# EAGLE library part STM32F746NG (library ICs)
32 Bit Microcontroller, ART Accelerator, ARM Cortex-M7, 216 MHz, 1 MB, 320 KB, 216 Pins, TFBGA
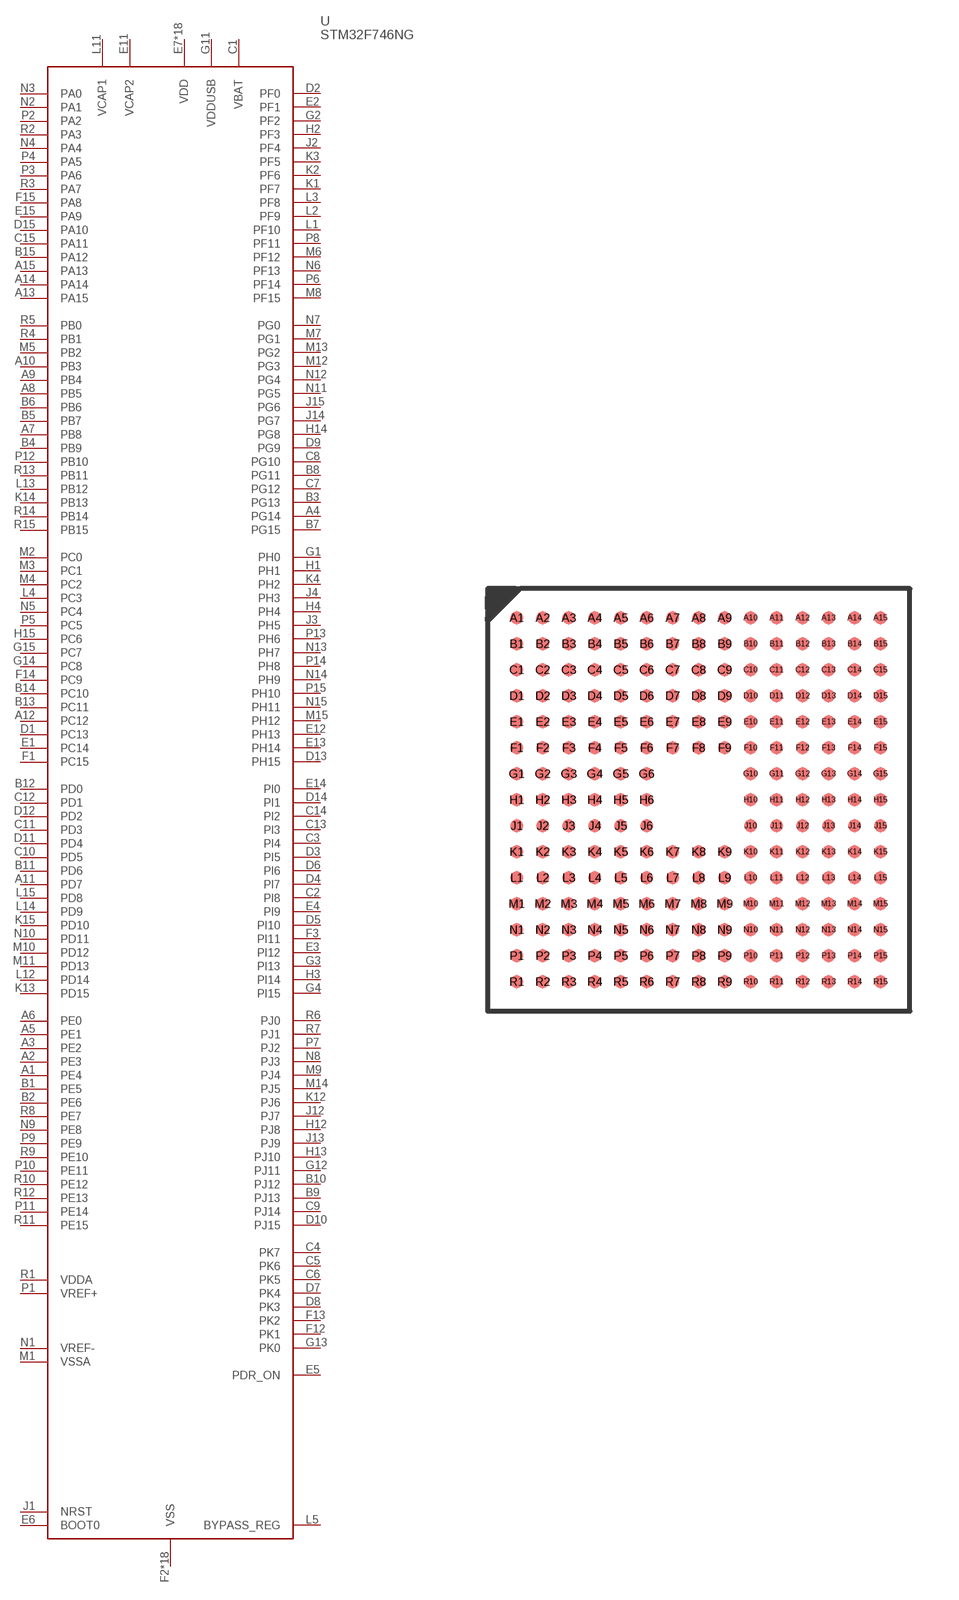
[diagram p126: symbol with the pads of TFBGA216; footprint TFBGA216]

Designator prefix U

## STM32F746NG (FARNELL: 2484970; PRICE_PER: 12.77; VALUE: STM32F746NG)  [TFBGA216]
A1  PE4
A2  PE3
A3  PE2
A4  PG14
A5  PE1
A6  PE0
A7  PB8
A8  PB5
A9  PB4
A10  PB3
A11  PD7
A12  PC12
A13  PA15
A14  PA14
A15  PA13
B1  PE5
B2  PE6
B3  PG13
B4  PB9
B5  PB7
B6  PB6
B7  PG15
B8  PG11
B9  PJ13
B10  PJ12
B11  PD6
B12  PD0
B13  PC11
B14  PC10
B15  PA12
C1  VBAT
C2  PI8
C3  PI4
C4  PK7
C5  PK6
C6  PK5
C7  PG12
C8  PG10
C9  PJ14
C10  PD5
C11  PD3
C12  PD1
C13  PI3
C14  PI2
C15  PA11
D1  PC13
D2  PF0
D3  PI5
D4  PI7
D5  PI10
D6  PI6
D7  PK4
D8  PK3
D9  PG9
D10  PJ15
D11  PD4
D12  PD2
D13  PH15
D14  PI1
D15  PA10
E1  PC14
E2  PF1
E3  PI12
E4  PI9
E5  PDR_ON
E6  BOOT0
E7  VDD
E8  VDD
E9  VDD
E10  VDD
E11  VCAP2
E12  PH13
E13  PH14
E14  PI0
E15  PA9
F1  PC15
F2  VSS
F3  PI11
F4  VDD
F5  VDD
F6  VSS
F7  VSS
F8  VSS
F9  VSS
F10  VSS
F11  VDD
F12  PK1
F13  PK2
F14  PC9
F15  PA8
G1  PH0
G2  PF2
G3  PI13
G4  PI15
G5  VDD
G6  VSS
G10  VSS
G11  VDDUSB
G12  PJ11
G13  PK0
G14  PC8
G15  PC7
H1  PH1
H2  PF3
H3  PI14
H4  PH4
H5  VDD
H6  VSS
H10  VSS
H11  VDD
H12  PJ8
H13  PJ10
H14  PG8
H15  PC6
J1  NRST
J2  PF4
J3  PH5
J4  PH3
J5  VDD
J6  VSS
J10  VSS
J11  VDD
J12  PJ7
J13  PJ9
J14  PG7
J15  PG6
K1  PF7
K2  PF6
K3  PF5
K4  PH2
K5  VDD
K6  VSS
K7  VSS
K8  VSS
K9  VSS
K10  VSS
K11  VDD
K12  PJ6
K13  PD15
K14  PB13
K15  PD10
L1  PF10
L2  PF9
L3  PF8
L4  PC3
L5  BYPASS_REG
L6  VSS
L7  VDD
L8  VDD
L9  VDD
L10  VDD
L11  VCAP1
L12  PD14
L13  PB12
L14  PD9
L15  PD8
M1  VSSA
M2  PC0
M3  PC1
M4  PC2
M5  PB2
M6  PF12
M7  PG1
M8  PF15
M9  PJ4
M10  PD12
M11  PD13
M12  PG3
M13  PG2
M14  PJ5
M15  PH12
N1  VREF-
N2  PA1
N3  PA0
N4  PA4
N5  PC4
N6  PF13
N7  PG0
N8  PJ3
N9  PE8
N10  PD11
N11  PG5
N12  PG4
N13  PH7
N14  PH9
N15  PH11
P1  VREF+
P2  PA2
P3  PA6
P4  PA5
P5  PC5
P6  PF14
P7  PJ2
P8  PF11
P9  PE9
P10  PE11
P11  PE14
P12  PB10
P13  PH6
P14  PH8
P15  PH10
R1  VDDA
R2  PA3
R3  PA7
R4  PB1
R5  PB0
R6  PJ0
R7  PJ1
R8  PE7
R9  PE10
R10  PE12
R11  PE15
R12  PE13
R13  PB11
R14  PB14
R15  PB15

## Footprint TFBGA216 (pad centres in mm)
smd 0.4 x 0.4: A1 -5.6,5.6; A2 -4.8,5.6; A3 -4,5.6; A4 -3.2,5.6; A5 -2.4,5.6; A6 -1.6,5.6; A7 -0.8,5.6; A8 0,5.6; A9 0.8,5.6; A10 1.6,5.6; A11 2.4,5.6; A12 3.2,5.6; A13 4,5.6; A14 4.8,5.6; A15 5.6,5.6; B1 -5.6,4.8; B2 -4.8,4.8; B3 -4,4.8; B4 -3.2,4.8; B5 -2.4,4.8; B6 -1.6,4.8; B7 -0.8,4.8; B8 0,4.8; B9 0.8,4.8; B10 1.6,4.8; B11 2.4,4.8; B12 3.2,4.8; B13 4,4.8; B14 4.8,4.8; B15 5.6,4.8; C1 -5.6,4; C2 -4.8,4; C3 -4,4; C4 -3.2,4; C5 -2.4,4; C6 -1.6,4; C7 -0.8,4; C8 0,4; C9 0.8,4; C10 1.6,4; C11 2.4,4; C12 3.2,4; C13 4,4; C14 4.8,4; C15 5.6,4; D1 -5.6,3.2; D2 -4.8,3.2; D3 -4,3.2; D4 -3.2,3.2; D5 -2.4,3.2; D6 -1.6,3.2; D7 -0.8,3.2; D8 0,3.2; D9 0.8,3.2; D10 1.6,3.2; D11 2.4,3.2; D12 3.2,3.2; D13 4,3.2; D14 4.8,3.2; D15 5.6,3.2; E1 -5.6,2.4; E2 -4.8,2.4; E3 -4,2.4; E4 -3.2,2.4; E5 -2.4,2.4; E6 -1.6,2.4; E7 -0.8,2.4; E8 0,2.4; E9 0.8,2.4; E10 1.6,2.4; E11 2.4,2.4; E12 3.2,2.4; E13 4,2.4; E14 4.8,2.4; E15 5.6,2.4; F1 -5.6,1.6; F2 -4.8,1.6; F3 -4,1.6; F4 -3.2,1.6; F5 -2.4,1.6; F6 -1.6,1.6; F7 -0.8,1.6; F8 0,1.6; F9 0.8,1.6; F10 1.6,1.6; F11 2.4,1.6; F12 3.2,1.6; F13 4,1.6; F14 4.8,1.6; F15 5.6,1.6; G1 -5.6,0.8; G2 -4.8,0.8; G3 -4,0.8; G4 -3.2,0.8; G5 -2.4,0.8; G6 -1.6,0.8; G10 1.6,0.8; G11 2.4,0.8; G12 3.2,0.8; G13 4,0.8; G14 4.8,0.8; G15 5.6,0.8; H1 -5.6,0; H2 -4.8,0; H3 -4,0; H4 -3.2,0; H5 -2.4,0; H6 -1.6,0; H10 1.6,0; H11 2.4,0; H12 3.2,0; H13 4,0; H14 4.8,0; H15 5.6,0; J1 -5.6,-0.8; J2 -4.8,-0.8; J3 -4,-0.8; J4 -3.2,-0.8; J5 -2.4,-0.8; J6 -1.6,-0.8; J10 1.6,-0.8; J11 2.4,-0.8; J12 3.2,-0.8; J13 4,-0.8; J14 4.8,-0.8; J15 5.6,-0.8; K1 -5.6,-1.6; K2 -4.8,-1.6; K3 -4,-1.6; K4 -3.2,-1.6; K5 -2.4,-1.6; K6 -1.6,-1.6; K7 -0.8,-1.6; K8 0,-1.6; K9 0.8,-1.6; K10 1.6,-1.6; K11 2.4,-1.6; K12 3.2,-1.6; K13 4,-1.6; K14 4.8,-1.6; K15 5.6,-1.6; L1 -5.6,-2.4; L2 -4.8,-2.4; L3 -4,-2.4; L4 -3.2,-2.4; L5 -2.4,-2.4; L6 -1.6,-2.4; L7 -0.8,-2.4; L8 0,-2.4; L9 0.8,-2.4; L10 1.6,-2.4; L11 2.4,-2.4; L12 3.2,-2.4; L13 4,-2.4; L14 4.8,-2.4; L15 5.6,-2.4; M1 -5.6,-3.2; M2 -4.8,-3.2; M3 -4,-3.2; M4 -3.2,-3.2; M5 -2.4,-3.2; M6 -1.6,-3.2; M7 -0.8,-3.2; M8 0,-3.2; M9 0.8,-3.2; M10 1.6,-3.2; M11 2.4,-3.2; M12 3.2,-3.2; M13 4,-3.2; M14 4.8,-3.2; M15 5.6,-3.2; N1 -5.6,-4; N2 -4.8,-4; N3 -4,-4; N4 -3.2,-4; N5 -2.4,-4; N6 -1.6,-4; N7 -0.8,-4; N8 0,-4; N9 0.8,-4; N10 1.6,-4; N11 2.4,-4; N12 3.2,-4; N13 4,-4; N14 4.8,-4; N15 5.6,-4; P1 -5.6,-4.8; P2 -4.8,-4.8; P3 -4,-4.8; P4 -3.2,-4.8; P5 -2.4,-4.8; P6 -1.6,-4.8; P7 -0.8,-4.8; P8 0,-4.8; P9 0.8,-4.8; P10 1.6,-4.8; P11 2.4,-4.8; P12 3.2,-4.8; P13 4,-4.8; P14 4.8,-4.8; P15 5.6,-4.8; R1 -5.6,-5.6; R2 -4.8,-5.6; R3 -4,-5.6; R4 -3.2,-5.6; R5 -2.4,-5.6; R6 -1.6,-5.6; R7 -0.8,-5.6; R8 0,-5.6; R9 0.8,-5.6; R10 1.6,-5.6; R11 2.4,-5.6; R12 3.2,-5.6; R13 4,-5.6; R14 4.8,-5.6; R15 5.6,-5.6